# EAGLE library part CAN-TRANSCEIVER-MODULE (library ovms_lilygo)
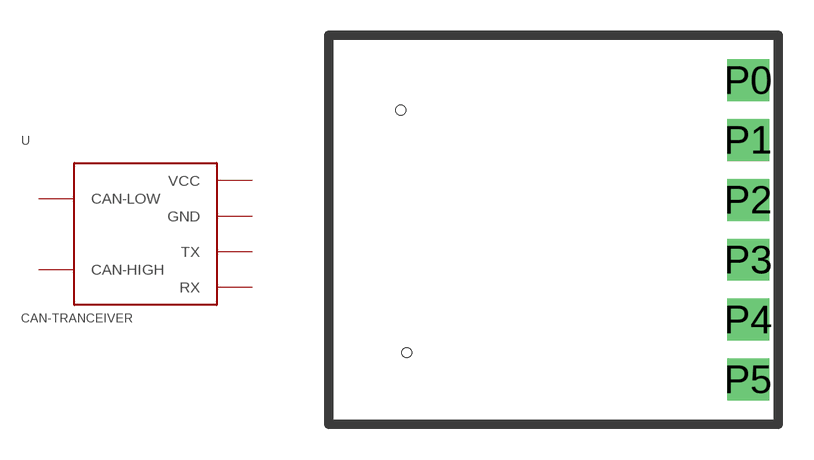
[diagram p3: symbol with the pads of CAN-BUS-TRANSCEIVER_MODULE; footprint CAN-BUS-TRANSCEIVER_MODULE]

Designator prefix -

## CAN-TRANSCEIVER-MODULE  [CAN-BUS-TRANSCEIVER_MODULE]
P0  CAN-LOW
P1  CAN-HIGH
P2  RX
P3  TX
P4  GND
P5  VCC

## Footprint CAN-BUS-TRANSCEIVER_MODULE (pad centres in mm)
drill 0.6 pad 1.778 square: P0 0,-1.27; P1 0,-3.81; P2 0,-6.35; P3 0,-8.89; P4 0,-11.43; P5 0,-13.97
hole 0.4 at -14.732,-2.54
hole 0.4 at -14.478,-12.827